# EAGLE library part SN74CBT3257C_D_16 (library TIAnalog)
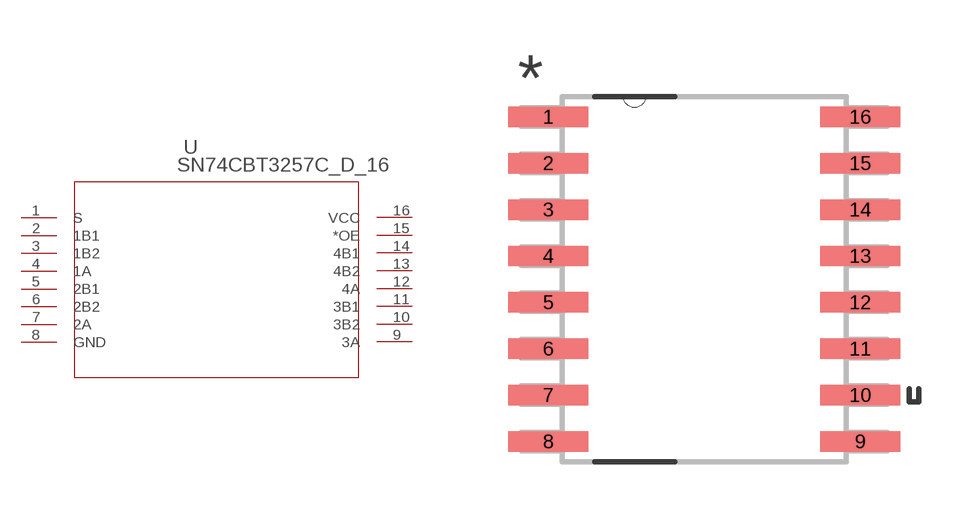
[diagram p3: symbol with the pads of D16; footprint D16]

Designator prefix U

## SN74CBT3257C_D_16 (DATASHEETURL: http://www.ti.com/lit/gpn/SN74CBT3257C; DESCRIPTION: 4-Bit 1-Of-2 FET Multiplexer/Demultiplexer with -2 V Undershoot Protection; FAMILY_NAME: DIGITAL BUS EXCHANGE/MULTIPLEXING SWITCH; GENERIC_PART_NUMBER: SN74CBT3257C; INDUSTRY_STD_PKG_TYPE: SOIC; MANUFACTURER: Texas Instruments; MANUFACTURER_PART_NUMBER: sn74cbt3257c_d_16; PACKAGE_DESIGNATOR: D; PIN_COUNT: 16; VENDOR: Texas Instruments)  [D16]
1  S  in
2  1B1
3  1B2
4  1A
5  2B1
6  2B2
7  2A
8  GND  pwr
9  3A
10  3B2
11  3B1
12  4A
13  4B2
14  4B1
15  *OE  in
16  VCC  pwr

## Footprint D16 (pad centres in mm)
smd 2.184 x 0.559: 1 -2.362,4.445; 2 -2.362,3.175; 3 -2.362,1.905; 4 -2.362,0.635; 5 -2.362,-0.635; 6 -2.362,-1.905; 7 -2.362,-3.175; 8 -2.362,-4.445; 9 6.172,-4.445; 10 6.172,-3.175; 11 6.172,-1.905; 12 6.172,-0.635; 13 6.172,0.635; 14 6.172,1.905; 15 6.172,3.175; 16 6.172,4.445